# Altium schematic symbol library LIS2DH12.SchLib: 1 symbol
Pins are listed as number, name and electrical type; pins without a type are passive.

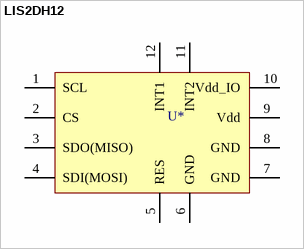
[diagram p0: symbol LIS2DH12]

## LIS2DH12
designator U*  (value not drawn)
LIS2DH12 (not 14)
footprint LIS2DH12 (LIS2DH with 12 pads (not 14))
pins: 1 SCL, 2 CS, 3 SDO(MISO), 4 SDI(MOSI), 5 RES, 6 GND, 7 GND, 8 GND, 9 Vdd, 10 Vdd_IO, 11 INT2, 12 INT1